# Altium integrated library Micron Memory Parallel NOR Flash.IntLib: 720 symbols (part 185 of 216)
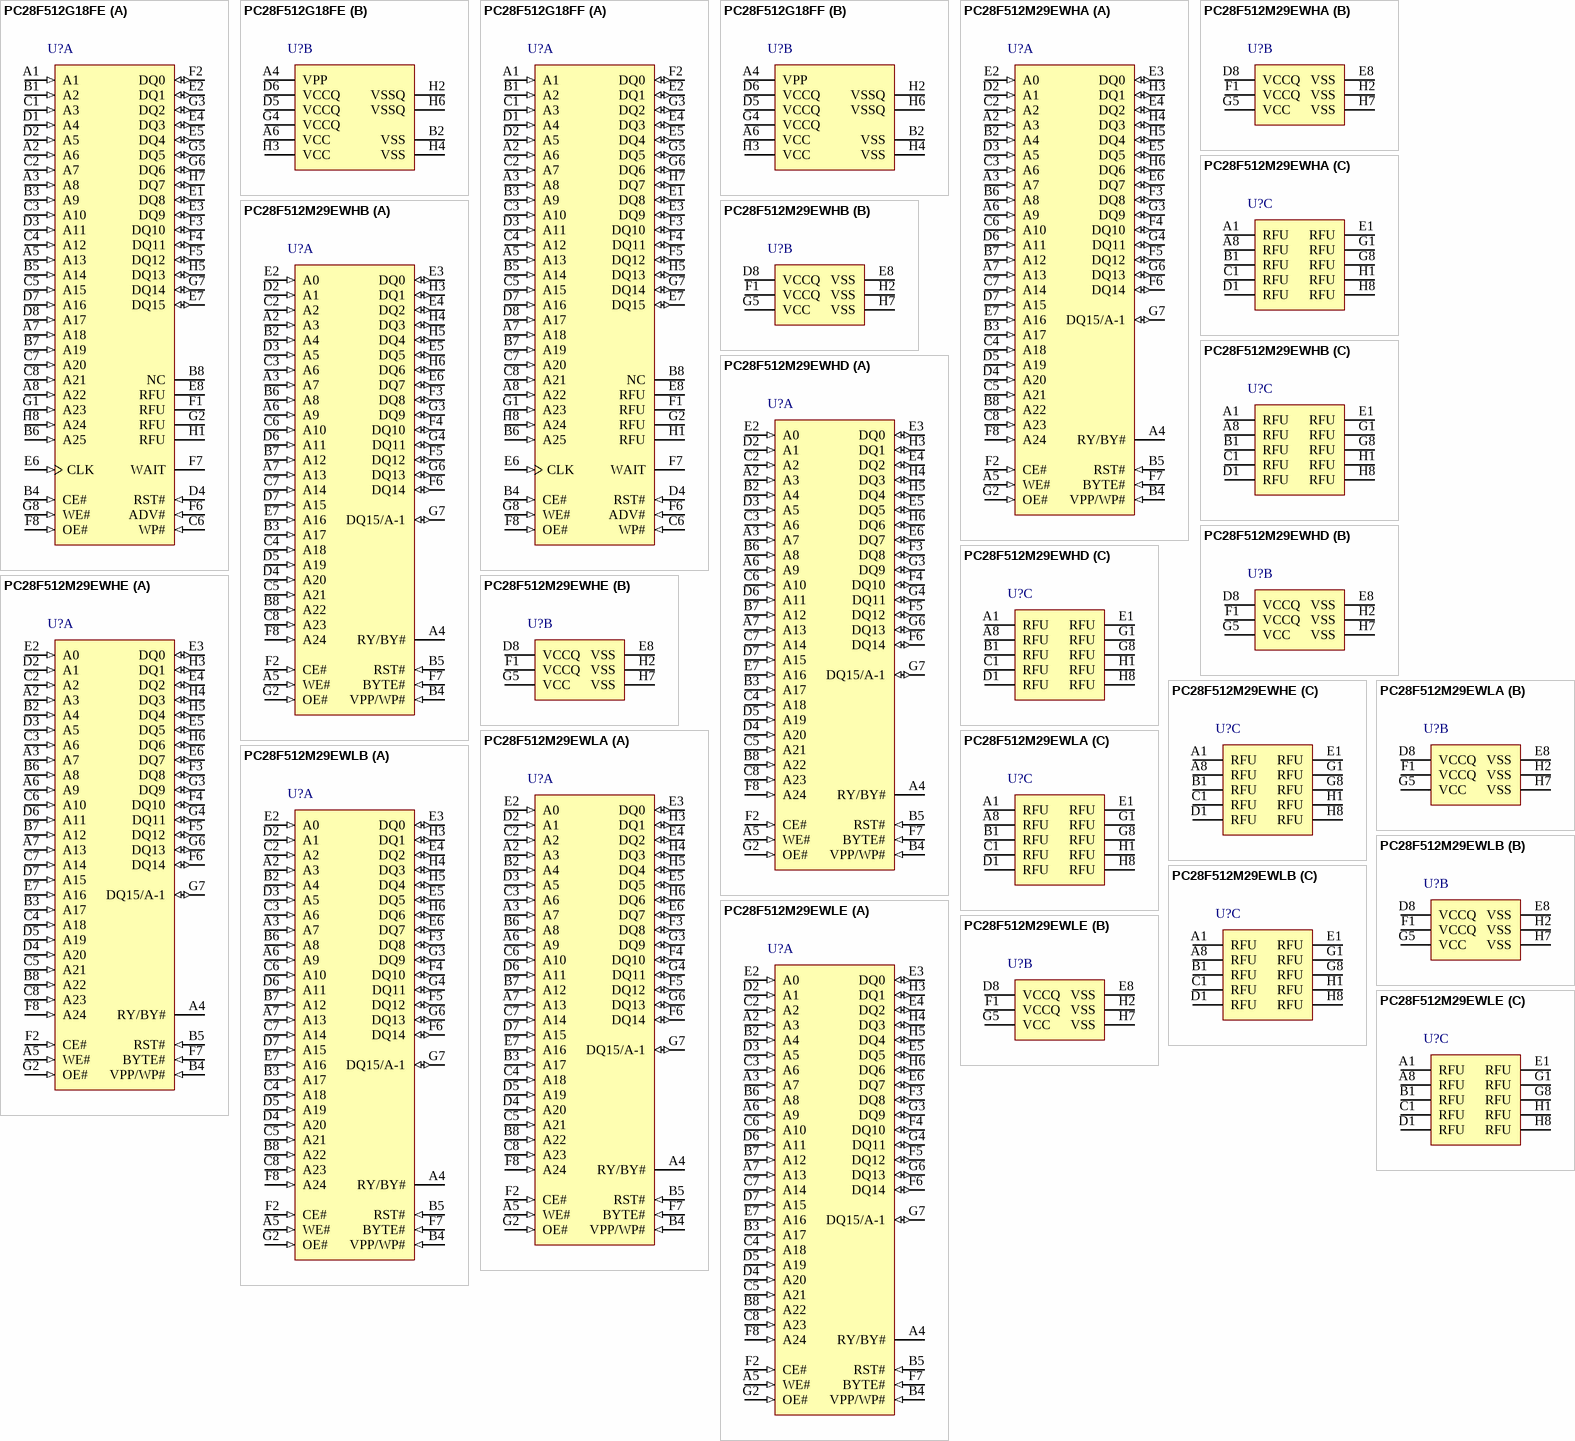
[diagram p216: symbols PC28F512G18FE to PC28F512M29EWLE]

## PC28F512G18FF
designator U?
512 Mb (x16) Parallel NOR Flash Memory, 96 ns, 1.7 to 2.0 V, 64-ball Easy BGA (PC), Tape & Reel; Part Family: G18; Manufacturer: Micron; PartNumber: PC28F512G18FF; Density: 512Mb; Op Temp: -40C to +85C; Speed: 96ns; Voltage: 1.7V-2.0V; DatasheetVersion: Rev. F; PackageVersion: Rev. 5; PackageReference: MICT-PC-64-8000X10000X1200DEA; PackageDescription: 64-Ball BGA, 8 x 10 mm, Pitch 1 mm; RoHS: Yes; Width: x16; Mounting Technology: Surface Mount; ComponentLink1Description: Manufacturer URL; ComponentLink1URL: http://www.micron.com/; ComponentLink2Description: Datasheet; ComponentLink2URL: http://www.micron.com/~/media/Documents/Products/Data%20Sheet/NOR%20Flash/Parallel/G18/128_256_512_1Gb_65nm_g18.pdf; ComponentLink3Description: Package Specification; ComponentLink3URL: http://www.micron.com/~/media/Documents/Products/Data%20Sheet/NOR%20Flash/Parallel/P33/314749_P33_130nm_Discrete_DS.pdf
footprint MICT-PC-64-8000X10000X1200DEA (BGA, 64-Balls, Body 10x8mm, Pitch 1mm)
part A pins: A1 (in) "Address Input: Address Input for all READ/WRITE cycles.", A2 A6 (in) "Address Input: Address Input for all READ/WRITE cycles.", A3 A8 (in) "Address Input: Address Input for all READ/WRITE cycles.", A5 A13 (in) "Address Input: Address Input for all READ/WRITE cycles.", A7 A18 (in) "Address Input: Address Input for all READ/WRITE cycles.", A8 A22 (in) "Address Input: Address Input for all READ/WRITE cycles.", B1 A2 (in) "Address Input: Address Input for all READ/WRITE cycles.", B3 A9 (in) "Address Input: Address Input for all READ/WRITE cycles.", B4 CE# (in) "Chip enable: LOW true input. When LOW, CE# selects the die; when HIGH, CE# deselects the die and places it in standby.", B5 A14 (in) "Address Input: Address Input for all READ/WRITE cycles.", B6 A25 (in) "Address Input: Address Input for all READ/WRITE cycles.", B7 A19 (in) "Address Input: Address Input for all READ/WRITE cycles.", B8 NC "no connect", C1 A3 (in) "Address Input: Address Input for all READ/WRITE cycles.", C2 A7 (in) "Address Input: Address Input for all READ/WRITE cycles.", C3 A10 (in) "Address Input: Address Input for all READ/WRITE cycles.", C4 A12 (in) "Address Input: Address Input for all READ/WRITE cycles.", C5 A15 (in) "Address Input: Address Input for all READ/WRITE cycles.", C6 WP# (in) "Write protect: LOW true input. When LOW, WP# enables block lock down; when HIGH, WP# disables block lock down.", C7 A20 (in) "Address Input: Address Input for all READ/WRITE cycles.", C8 A21 (in) "Address Input: Address Input for all READ/WRITE cycles.", D1 A4 (in) "Address Input: Address Input for all READ/WRITE cycles.", D2 A5 (in) "Address Input: Address Input for all READ/WRITE cycles.", D3 A11 (in) "Address Input: Address Input for all READ/WRITE cycles.", D4 RST# (in) "Reset: LOW true input. When LOW, RST# inhibits all operations; must be HIGH for normal operations.", D7 A16 (in) "Address Input: Address Input for all READ/WRITE cycles.", D8 A17 (in) "Address Input: Address Input for all READ/WRITE cycles.", E1 DQ8 (io) "Data: Data or command Input during WRITE cycles; data, status, or device information Output during READ cycles.", E2 DQ1 (io) "Data: Data or command Input during WRITE cycles; data, status, or device information Output during READ cycles.", E3 DQ9 (io) "Data: Data or command Input during WRITE cycles; data, status, or device information Output during READ cycles.", E4 DQ3 (io) "Data: Data or command Input during WRITE cycles; data, status, or device information Output during READ cycles.", E5 DQ4 (io) "Data: Data or command Input during WRITE cycles; data, status, or device information Output during READ cycles.", E6 CLK (in) "Clock: Synchronizes burst READ operations with the host controller.", E7 DQ15 (io) "Data: Data or command Input during WRITE cycles; data, status, or device information Output during READ cycles.", E8 RFU "Reserved for Future Use: Reserved by Numonyx for future device functionality and enhancement. These should be treated in the same way as a Do Not Use (DU) signal.", F1 RFU "Reserved for Future Use: Reserved by Numonyx for future device functionality and enhancement. These should be treated in the same way as a Do Not Use (DU) signal.", F2 DQ0 (io) "Data: Data or command Input during WRITE cycles; data, status, or device information Output during READ cycles.", F3 DQ10 (io) "Data: Data or command Input during WRITE cycles; data, status, or device information Output during READ cycles.", F4 DQ11 (io) "Data: Data or command Input during WRITE cycles; data, status, or device information Output during READ cycles.", F5 DQ12 (io) "Data: Data or command Input during WRITE cycles; data, status, or device information Output during READ cycles.", F6 ADV# (in) "Address valid: LOW true input. When LOW, ADV# enables address inputs. For synchronous burst READs, address inputs are latched on the rising edge.", F7 WAIT (hiz) "WAIT: Configurable HIGH or LOW true output. When asserted, WAIT indicates DQ[15:0] is invalid; when de-asserted, WAIT indicates DQ[15:0] is valid.", F8 OE# (in) "Output enable: LOW true input. Must be LOW for READs and HIGH for WRITEs.", G1 A23 (in) "Address Input: Device Address Input. 64-Mbit: A[22:1]; 128-Mbit: A[23:1]; 256-Mbit: A[24:1]; 512-Mbit: A[25:1]. Note: The virtual selection of the 256-Mbit “Top parameter” die in the dual-die 512-Mbit configuration is (See Datasheet)", G2 RFU "Reserved for Future Use: Reserved by Numonyx for future device functionality and enhancement. These should be treated in the same way as a Do Not Use (DU) signal.", G3 DQ2 (io) "Data: Data or command Input during WRITE cycles; data, status, or device information Output during READ cycles.", G5 DQ5 (io) "Data: Data or command Input during WRITE cycles; data, status, or device information Output during READ cycles.", G6 DQ6 (io) "Data: Data or command Input during WRITE cycles; data, status, or device information Output during READ cycles.", G7 DQ14 (io) "Data: Data or command Input during WRITE cycles; data, status, or device information Output during READ cycles.", G8 WE# (in) "Write enable: LOW true input. Must be LOW for WRITEs and HIGH for READs.", H1 RFU "Reserved for Future Use: Reserved by Numonyx for future device functionality and enhancement. These should be treated in the same way as a Do Not Use (DU) signal.", H5 DQ13 (io) "Data: Data or command Input during WRITE cycles; data, status, or device information Output during READ cycles.", H7 DQ7 (io) "Data: Data or command Input during WRITE cycles; data, status, or device information Output during READ cycles.", H8 A24 (in) "Address Input: Address Input for all READ/WRITE cycles."
part B pins: A4 VPP (power) "Erase/program voltage: Enables voltage for PROGRAM and ERASE operations. Array contents cannot be altered when VPP is at or below VPPLK.", A6 VCC (power) "Core power: Supply voltage for core circuits. All operations are inhibited when VCC is at or below VLKO.", B2 VSS (power) "Logic ground: Core logic ground return. Connect all VSS balls to system ground; do not float any VSS balls.", D5 VCCQ (power) "I/O power: Supply voltage for all I/O drivers. All operations are inhibited when VCCQ is at or below VLKOQ", D6 VCCQ (power) "I/O power: Supply voltage for all I/O drivers. All operations are inhibited when VCCQ is at or below VLKOQ", G4 VCCQ (power) "I/O power: Supply voltage for all I/O drivers. All operations are inhibited when VCCQ is at or below VLKOQ", H2 VSSQ (power) "I/O ground: I/O driver ground return. Connect all VSSQ balls to system ground; do not float any VSSQ balls.", H3 VCC (power) "Device Core Power Supply: Core (logic) source voltage. Writes to the flash array are inhibited when VCC . VLKO. Operations at invalid VCC voltages should not be attempted.", H4 VSS (power) "Logic ground: Core logic ground return. Connect all VSS balls to system ground; do not float any VSS balls.", H6 VSSQ (power) "I/O ground: I/O driver ground return. Connect all VSSQ balls to system ground; do not float any VSSQ balls."

## PC28F512M29EWHA
designator U?
512 Mb (x8/x16) Parallel NOR Flash Memory, 100 ns, 2.7 to 3.6 V, 64-ball FBGA (PC), Tray; Part Family: M29EW; Manufacturer: Micron; PartNumber: PC28F512M29EWHA; Density: 512Mb; Op Temp: -40C to +85C; Speed: 100ns; Voltage: 2.7V-3.6V; DatasheetVersion: Rev. B; PackageVersion: Rev. B; PackageReference: MICT-PC-64-13000X11000X1400DEA; PackageDescription: 64-Ball BGA, 13 x 11 mm, Pitch 1 mm; RoHS: Yes; Width: x8/x16; Mounting Technology: Surface Mount; ComponentLink1Description: Manufacturer URL; ComponentLink1URL: http://www.micron.com/; ComponentLink2Description: Datasheet; ComponentLink2URL: http://www.micron.com/~/media/Documents/Products/Data%20Sheet/NOR%20Flash/Parallel/M29EW/m29ew_256mb_2gb.pdf; ComponentLink3Description: Package Specification; ComponentLink3URL: http://www.micron.com/~/media/Documents/Products/Data%20Sheet/NOR%20Flash/Parallel/M29EW/m29ew_256mb_2gb.pdf
footprint MICT-PC-64-13000X11000X1400DEA (BGA, 64-Balls, Body 13x11mm, Pitch 1mm)
part A pins: A2 A3 (in) "Address: Selects the cells in the array to access during READ operations. During WRITE operations, they control the commands sent to the command interface of the program/erase controller.", A3 A7 (in) "Address: Selects the cells in the array to access during READ operations. During WRITE operations, they control the commands sent to the command interface of the program/erase controller.", A4 RY/BY# (hiz) "Ready busy: Open-drain output that can be used to identify when the device is performing a PROGRAM or ERASE operation. During PROGRAM or ERASE operations, RY/BY# is LOW, and is High-Z during read mode, auto select mode, and (See Datasheet)", A5 WE# (in) "Write enable: Controls the bus WRITE operation of the command interface.", A6 A9 (in) "Address: Selects the cells in the array to access during READ operations. During WRITE operations, they control the commands sent to the command interface of the program/erase controller.", A7 A13 (in) "Address: Selects the cells in the array to access during READ operations. During WRITE operations, they control the commands sent to the command interface of the program/erase controller.", B2 A4 (in) "Address: Selects the cells in the array to access during READ operations. During WRITE operations, they control the commands sent to the command interface of the program/erase controller.", B3 A17 (in) "Address: Selects the cells in the array to access during READ operations. During WRITE operations, they control the commands sent to the command interface of the program/erase controller.", B4 VPP/WP# (in) "VPP/Write Protect: Provides WRITE PROTECT function and VPPH function. These functions protect the lowest or highest block and enable the device to enter unlock bypass mode, respectively. (Refer to Hardware Protection and (See Datasheet)", B5 RST# (in) "Reset: Applies a hardware reset to the device, which is achieved by holding RST# LOW for at least tPLPX. After RST# goes HIGH, the device is ready for READ and WRITE operations (after tPHEL or tRHEL, whichever occurs last). (See Datasheet)", B6 A8 (in) "Address: Selects the cells in the array to access during READ operations. During WRITE operations, they control the commands sent to the command interface of the program/erase controller.", B7 A12 (in) "Address: Selects the cells in the array to access during READ operations. During WRITE operations, they control the commands sent to the command interface of the program/erase controller.", B8 A22 (in) "Address: Selects the cells in the array to access during READ operations. During WRITE operations, they control the commands sent to the command interface of the program/erase controller.", C2 A2 (in) "Address: Selects the cells in the array to access during READ operations. During WRITE operations, they control the commands sent to the command interface of the program/erase controller.", C3 A6 (in) "Address: Selects the cells in the array to access during READ operations. During WRITE operations, they control the commands sent to the command interface of the program/erase controller.", C4 A18 (in) "Address: Selects the cells in the array to access during READ operations. During WRITE operations, they control the commands sent to the command interface of the program/erase controller.", C5 A21 (in) "Address: Selects the cells in the array to access during READ operations. During WRITE operations, they control the commands sent to the command interface of the program/erase controller.", C6 A10 (in) "Address: Selects the cells in the array to access during READ operations. During WRITE operations, they control the commands sent to the command interface of the program/erase controller.", C7 A14 (in) "Address: Selects the cells in the array to access during READ operations. During WRITE operations, they control the commands sent to the command interface of the program/erase controller.", C8 A23 (in) "Address: Selects the cells in the array to access during READ operations. During WRITE operations, they control the commands sent to the command interface of the program/erase controller.", D2 A1 (in) "Address: Selects the cells in the array to access during READ operations. During WRITE operations, they control the commands sent to the command interface of the program/erase controller.", D3 A5 (in) "Address: Selects the cells in the array to access during READ operations. During WRITE operations, they control the commands sent to the command interface of the program/erase controller.", D4 A20 (in) "Address: Selects the cells in the array to access during READ operations. During WRITE operations, they control the commands sent to the command interface of the program/erase controller.", D5 A19 (in) "Address: Selects the cells in the array to access during READ operations. During WRITE operations, they control the commands sent to the command interface of the program/erase controller.", D6 A11 (in) "Address: Selects the cells in the array to access during READ operations. During WRITE operations, they control the commands sent to the command interface of the program/erase controller.", D7 A15 (in) "Address: Selects the cells in the array to access during READ operations. During WRITE operations, they control the commands sent to the command interface of the program/erase controller.", E2 A0 (in) "Address: Selects the cells in the array to access during READ operations. During WRITE operations, they control the commands sent to the command interface of the program/erase controller.", E3 DQ0 (io) "Data I/O: Outputs the data stored at the selected address during a READ operation. During WRITE operations, they represent the commands sent to the command interface of the internal state machine.", E4 DQ2 (io) "Data I/O: Outputs the data stored at the selected address during a READ operation. During WRITE operations, they represent the commands sent to the command interface of the internal state machine.", E5 DQ5 (io) "Data I/O: Outputs the data stored at the selected address during a READ operation. During WRITE operations, they represent the commands sent to the command interface of the internal state machine.", E6 DQ7 (io) "Data I/O: Outputs the data stored at the selected address during a READ operation. During WRITE operations, they represent the commands sent to the command interface of the internal state machine.", E7 A16 (in) "Address: Selects the cells in the array to access during READ operations. During WRITE operations, they control the commands sent to the command interface of the program/erase controller.", F2 CE# (in) "Chip enable: Activates the device, enabling READ and WRITE operations to be performed. When CE# is HIGH, the device goes to standby and data outputs are at HIGH-Z.", F3 DQ8 (io) "Data I/O: Outputs the data stored at the selected address during a READ operation when BYTE# is HIGH. When BYTE# is LOW, these pins are not used and are High-Z. During WRITE operations, these bits are not used. When reading (See Datasheet)", F4 DQ10 (io) "Data I/O: Outputs the data stored at the selected address during a READ operation when BYTE# is HIGH. When BYTE# is LOW, these pins are not used and are High-Z. During WRITE operations, these bits are not used. When reading (See Datasheet)", F5 DQ12 (io) "Data I/O: Outputs the data stored at the selected address during a READ operation when BYTE# is HIGH. When BYTE# is LOW, these pins are not used and are High-Z. During WRITE operations, these bits are not used. When reading (See Datasheet)", F6 DQ14 (io) "Data I/O: Outputs the data stored at the selected address during a READ operation when BYTE# is HIGH. When BYTE# is LOW, these pins are not used and are High-Z. During WRITE operations, these bits are not used. When reading (See Datasheet)", F7 BYTE# (in) "Byte/word organization select: Switches between x8 and x16 bus modes. When BYTE# is LOW, the device is in x8 mode; when HIGH, the device is in x16 mode.", F8 A24 (in) "Address: Selects the cells in the array to access during READ operations. During WRITE operations, they control the commands sent to the command interface of the program/erase controller.", G2 OE# (in) "Output enable: Controls the bus READ operation.", G3 DQ9 (io) "Data I/O: Outputs the data stored at the selected address during a READ operation when BYTE# is HIGH. When BYTE# is LOW, these pins are not used and are High-Z. During WRITE operations, these bits are not used. When reading (See Datasheet)", G4 DQ11 (io) "Data I/O: Outputs the data stored at the selected address during a READ operation when BYTE# is HIGH. When BYTE# is LOW, these pins are not used and are High-Z. During WRITE operations, these bits are not used. When reading (See Datasheet)", G6 DQ13 (io) "Data I/O: Outputs the data stored at the selected address during a READ operation when BYTE# is HIGH. When BYTE# is LOW, these pins are not used and are High-Z. During WRITE operations, these bits are not used. When reading (See Datasheet)", G7 DQ15/A-1 (io) "Data I/O or address input: When the device operates in x16 bus mode, this pin behaves as data I/O, together with DQ[14:8]. When the device operates in x8 bus mode, this pin behaves as the least significant bit of the address.(See Datasheet)", H3 DQ1 (io) "Data I/O: Outputs the data stored at the selected address during a READ operation. During WRITE operations, they represent the commands sent to the command interface of the internal state machine.", H4 DQ3 (io) "Data I/O: Outputs the data stored at the selected address during a READ operation. During WRITE operations, they represent the commands sent to the command interface of the internal state machine.", H5 DQ4 (io) "Data I/O: Outputs the data stored at the selected address during a READ operation. During WRITE operations, they represent the commands sent to the command interface of the internal state machine.", H6 DQ6 (io) "Data I/O: Outputs the data stored at the selected address during a READ operation. During WRITE operations, they represent the commands sent to the command interface of the internal state machine."
part B pins: D8 VCCQ (power) "I/O supply voltage: Provides the power supply to the I/O pins and enables all outputs to be powered independently from VCC.", E8 VSS (power) "Ground: All VSS pins must be connected to the system ground.", F1 VCCQ (power) "I/O supply voltage: Provides the power supply to the I/O pins and enables all outputs to be powered independently from VCC.", G5 VCC (power) "Supply voltage: Provides the power supply for READ, PROGRAM, and ERASE operations. The command interface is disabled when VCC <= VLKO. This prevents WRITE operations from accidentally damaging the data during power-up, (See Datasheet)", H2 VSS (power) "Ground: All VSS pins must be connected to the system ground.", H7 VSS (power) "Ground: All VSS pins must be connected to the system ground."
part C pins: A1 RFU "Reserved for future use: RFUs should be not connected.", A8 RFU "Reserved for future use: RFUs should be not connected.", B1 RFU "Reserved for future use: RFUs should be not connected.", C1 RFU "Reserved for future use: RFUs should be not connected.", D1 RFU "Reserved for future use: RFUs should be not connected.", E1 RFU "Reserved for future use: RFUs should be not connected.", G1 RFU "Reserved for future use: RFUs should be not connected.", G8 RFU "Reserved for future use: RFUs should be not connected.", H1 RFU "Reserved for future use: RFUs should be not connected.", H8 RFU "Reserved for future use: RFUs should be not connected."

## PC28F512M29EWHB
designator U?
512 Mb (x8/x16) Parallel NOR Flash Memory, 100 ns, 2.7 to 3.6 V, 64-ball FBGA (PC), Tape & Reel; Part Family: M29EW; Manufacturer: Micron; PartNumber: PC28F512M29EWHB; Density: 512Mb; Op Temp: -40C to +85C; Speed: 100ns; Voltage: 2.7V-3.6V; DatasheetVersion: Rev. B; PackageVersion: Rev. B; PackageReference: MICT-PC-64-13000X11000X1400DEA; PackageDescription: 64-Ball BGA, 13 x 11 mm, Pitch 1 mm; RoHS: Yes; Width: x8/x16; Mounting Technology: Surface Mount; ComponentLink1Description: Manufacturer URL; ComponentLink1URL: http://www.micron.com/; ComponentLink2Description: Datasheet; ComponentLink2URL: http://www.micron.com/~/media/Documents/Products/Data%20Sheet/NOR%20Flash/Parallel/M29EW/m29ew_256mb_2gb.pdf; ComponentLink3Description: Package Specification; ComponentLink3URL: http://www.micron.com/~/media/Documents/Products/Data%20Sheet/NOR%20Flash/Parallel/M29EW/m29ew_256mb_2gb.pdf
footprint MICT-PC-64-13000X11000X1400DEA (BGA, 64-Balls, Body 13x11mm, Pitch 1mm)
part A pins: A2 A3 (in) "Address: Selects the cells in the array to access during READ operations. During WRITE operations, they control the commands sent to the command interface of the program/erase controller.", A3 A7 (in) "Address: Selects the cells in the array to access during READ operations. During WRITE operations, they control the commands sent to the command interface of the program/erase controller.", A4 RY/BY# (hiz) "Ready busy: Open-drain output that can be used to identify when the device is performing a PROGRAM or ERASE operation. During PROGRAM or ERASE operations, RY/BY# is LOW, and is High-Z during read mode, auto select mode, and (See Datasheet)", A5 WE# (in) "Write enable: Controls the bus WRITE operation of the command interface.", A6 A9 (in) "Address: Selects the cells in the array to access during READ operations. During WRITE operations, they control the commands sent to the command interface of the program/erase controller.", A7 A13 (in) "Address: Selects the cells in the array to access during READ operations. During WRITE operations, they control the commands sent to the command interface of the program/erase controller.", B2 A4 (in) "Address: Selects the cells in the array to access during READ operations. During WRITE operations, they control the commands sent to the command interface of the program/erase controller.", B3 A17 (in) "Address: Selects the cells in the array to access during READ operations. During WRITE operations, they control the commands sent to the command interface of the program/erase controller.", B4 VPP/WP# (in) "VPP/Write Protect: Provides WRITE PROTECT function and VPPH function. These functions protect the lowest or highest block and enable the device to enter unlock bypass mode, respectively. (Refer to Hardware Protection and (See Datasheet)", B5 RST# (in) "Reset: Applies a hardware reset to the device, which is achieved by holding RST# LOW for at least tPLPX. After RST# goes HIGH, the device is ready for READ and WRITE operations (after tPHEL or tRHEL, whichever occurs last). (See Datasheet)", B6 A8 (in) "Address: Selects the cells in the array to access during READ operations. During WRITE operations, they control the commands sent to the command interface of the program/erase controller.", B7 A12 (in) "Address: Selects the cells in the array to access during READ operations. During WRITE operations, they control the commands sent to the command interface of the program/erase controller.", B8 A22 (in) "Address: Selects the cells in the array to access during READ operations. During WRITE operations, they control the commands sent to the command interface of the program/erase controller.", C2 A2 (in) "Address: Selects the cells in the array to access during READ operations. During WRITE operations, they control the commands sent to the command interface of the program/erase controller.", C3 A6 (in) "Address: Selects the cells in the array to access during READ operations. During WRITE operations, they control the commands sent to the command interface of the program/erase controller.", C4 A18 (in) "Address: Selects the cells in the array to access during READ operations. During WRITE operations, they control the commands sent to the command interface of the program/erase controller.", C5 A21 (in) "Address: Selects the cells in the array to access during READ operations. During WRITE operations, they control the commands sent to the command interface of the program/erase controller.", C6 A10 (in) "Address: Selects the cells in the array to access during READ operations. During WRITE operations, they control the commands sent to the command interface of the program/erase controller.", C7 A14 (in) "Address: Selects the cells in the array to access during READ operations. During WRITE operations, they control the commands sent to the command interface of the program/erase controller.", C8 A23 (in) "Address: Selects the cells in the array to access during READ operations. During WRITE operations, they control the commands sent to the command interface of the program/erase controller.", D2 A1 (in) "Address: Selects the cells in the array to access during READ operations. During WRITE operations, they control the commands sent to the command interface of the program/erase controller.", D3 A5 (in) "Address: Selects the cells in the array to access during READ operations. During WRITE operations, they control the commands sent to the command interface of the program/erase controller.", D4 A20 (in) "Address: Selects the cells in the array to access during READ operations. During WRITE operations, they control the commands sent to the command interface of the program/erase controller.", D5 A19 (in) "Address: Selects the cells in the array to access during READ operations. During WRITE operations, they control the commands sent to the command interface of the program/erase controller.", D6 A11 (in) "Address: Selects the cells in the array to access during READ operations. During WRITE operations, they control the commands sent to the command interface of the program/erase controller.", D7 A15 (in) "Address: Selects the cells in the array to access during READ operations. During WRITE operations, they control the commands sent to the command interface of the program/erase controller.", E2 A0 (in) "Address: Selects the cells in the array to access during READ operations. During WRITE operations, they control the commands sent to the command interface of the program/erase controller.", E3 DQ0 (io) "Data I/O: Outputs the data stored at the selected address during a READ operation. During WRITE operations, they represent the commands sent to the command interface of the internal state machine.", E4 DQ2 (io) "Data I/O: Outputs the data stored at the selected address during a READ operation. During WRITE operations, they represent the commands sent to the command interface of the internal state machine.", E5 DQ5 (io) "Data I/O: Outputs the data stored at the selected address during a READ operation. During WRITE operations, they represent the commands sent to the command interface of the internal state machine.", E6 DQ7 (io) "Data I/O: Outputs the data stored at the selected address during a READ operation. During WRITE operations, they represent the commands sent to the command interface of the internal state machine.", E7 A16 (in) "Address: Selects the cells in the array to access during READ operations. During WRITE operations, they control the commands sent to the command interface of the program/erase controller.", F2 CE# (in) "Chip enable: Activates the device, enabling READ and WRITE operations to be performed. When CE# is HIGH, the device goes to standby and data outputs are at HIGH-Z.", F3 DQ8 (io) "Data I/O: Outputs the data stored at the selected address during a READ operation when BYTE# is HIGH. When BYTE# is LOW, these pins are not used and are High-Z. During WRITE operations, these bits are not used. When reading (See Datasheet)", F4 DQ10 (io) "Data I/O: Outputs the data stored at the selected address during a READ operation when BYTE# is HIGH. When BYTE# is LOW, these pins are not used and are High-Z. During WRITE operations, these bits are not used. When reading (See Datasheet)", F5 DQ12 (io) "Data I/O: Outputs the data stored at the selected address during a READ operation when BYTE# is HIGH. When BYTE# is LOW, these pins are not used and are High-Z. During WRITE operations, these bits are not used. When reading (See Datasheet)", F6 DQ14 (io) "Data I/O: Outputs the data stored at the selected address during a READ operation when BYTE# is HIGH. When BYTE# is LOW, these pins are not used and are High-Z. During WRITE operations, these bits are not used. When reading (See Datasheet)", F7 BYTE# (in) "Byte/word organization select: Switches between x8 and x16 bus modes. When BYTE# is LOW, the device is in x8 mode; when HIGH, the device is in x16 mode.", F8 A24 (in) "Address: Selects the cells in the array to access during READ operations. During WRITE operations, they control the commands sent to the command interface of the program/erase controller.", G2 OE# (in) "Output enable: Controls the bus READ operation.", G3 DQ9 (io) "Data I/O: Outputs the data stored at the selected address during a READ operation when BYTE# is HIGH. When BYTE# is LOW, these pins are not used and are High-Z. During WRITE operations, these bits are not used. When reading (See Datasheet)", G4 DQ11 (io) "Data I/O: Outputs the data stored at the selected address during a READ operation when BYTE# is HIGH. When BYTE# is LOW, these pins are not used and are High-Z. During WRITE operations, these bits are not used. When reading (See Datasheet)", G6 DQ13 (io) "Data I/O: Outputs the data stored at the selected address during a READ operation when BYTE# is HIGH. When BYTE# is LOW, these pins are not used and are High-Z. During WRITE operations, these bits are not used. When reading (See Datasheet)", G7 DQ15/A-1 (io) "Data I/O or address input: When the device operates in x16 bus mode, this pin behaves as data I/O, together with DQ[14:8]. When the device operates in x8 bus mode, this pin behaves as the least significant bit of the address.(See Datasheet)", H3 DQ1 (io) "Data I/O: Outputs the data stored at the selected address during a READ operation. During WRITE operations, they represent the commands sent to the command interface of the internal state machine.", H4 DQ3 (io) "Data I/O: Outputs the data stored at the selected address during a READ operation. During WRITE operations, they represent the commands sent to the command interface of the internal state machine.", H5 DQ4 (io) "Data I/O: Outputs the data stored at the selected address during a READ operation. During WRITE operations, they represent the commands sent to the command interface of the internal state machine.", H6 DQ6 (io) "Data I/O: Outputs the data stored at the selected address during a READ operation. During WRITE operations, they represent the commands sent to the command interface of the internal state machine."
part B pins: D8 VCCQ (power) "I/O supply voltage: Provides the power supply to the I/O pins and enables all outputs to be powered independently from VCC.", E8 VSS (power) "Ground: All VSS pins must be connected to the system ground.", F1 VCCQ (power) "I/O supply voltage: Provides the power supply to the I/O pins and enables all outputs to be powered independently from VCC.", G5 VCC (power) "Supply voltage: Provides the power supply for READ, PROGRAM, and ERASE operations. The command interface is disabled when VCC <= VLKO. This prevents WRITE operations from accidentally damaging the data during power-up, (See Datasheet)", H2 VSS (power) "Ground: All VSS pins must be connected to the system ground.", H7 VSS (power) "Ground: All VSS pins must be connected to the system ground."
part C pins: A1 RFU "Reserved for future use: RFUs should be not connected.", A8 RFU "Reserved for future use: RFUs should be not connected.", B1 RFU "Reserved for future use: RFUs should be not connected.", C1 RFU "Reserved for future use: RFUs should be not connected.", D1 RFU "Reserved for future use: RFUs should be not connected.", E1 RFU "Reserved for future use: RFUs should be not connected.", G1 RFU "Reserved for future use: RFUs should be not connected.", G8 RFU "Reserved for future use: RFUs should be not connected.", H1 RFU "Reserved for future use: RFUs should be not connected.", H8 RFU "Reserved for future use: RFUs should be not connected."

## PC28F512M29EWHD
designator U?
512 Mb (x8/x16) Parallel NOR Flash Memory, 100 ns, 2.7 to 3.6 V, 64-ball FBGA (PC), Tray; Part Family: M29EW; Manufacturer: Micron; PartNumber: PC28F512M29EWHD; Density: 512Mb; Op Temp: -40C to +85C; Speed: 100ns; Voltage: 2.7V-3.6V; DatasheetVersion: Rev. B; PackageVersion: Rev. B; PackageReference: MICT-PC-64-13000X11000X1400DEA; PackageDescription: 64-Ball BGA, 13 x 11 mm, Pitch 1 mm; RoHS: Yes; Width: x8/x16; Mounting Technology: Surface Mount; ComponentLink1Description: Manufacturer URL; ComponentLink1URL: http://www.micron.com/; ComponentLink2Description: Datasheet; ComponentLink2URL: http://www.micron.com/~/media/Documents/Products/Data%20Sheet/NOR%20Flash/Parallel/M29EW/m29ew_256mb_2gb.pdf; ComponentLink3Description: Package Specification; ComponentLink3URL: http://www.micron.com/~/media/Documents/Products/Data%20Sheet/NOR%20Flash/Parallel/M29EW/m29ew_256mb_2gb.pdf
footprint MICT-PC-64-13000X11000X1400DEA (BGA, 64-Balls, Body 13x11mm, Pitch 1mm)
part A pins: A2 A3 (in) "Address: Selects the cells in the array to access during READ operations. During WRITE operations, they control the commands sent to the command interface of the program/erase controller.", A3 A7 (in) "Address: Selects the cells in the array to access during READ operations. During WRITE operations, they control the commands sent to the command interface of the program/erase controller.", A4 RY/BY# (hiz) "Ready busy: Open-drain output that can be used to identify when the device is performing a PROGRAM or ERASE operation. During PROGRAM or ERASE operations, RY/BY# is LOW, and is High-Z during read mode, auto select mode, and (See Datasheet)", A5 WE# (in) "Write enable: Controls the bus WRITE operation of the command interface.", A6 A9 (in) "Address: Selects the cells in the array to access during READ operations. During WRITE operations, they control the commands sent to the command interface of the program/erase controller.", A7 A13 (in) "Address: Selects the cells in the array to access during READ operations. During WRITE operations, they control the commands sent to the command interface of the program/erase controller.", B2 A4 (in) "Address: Selects the cells in the array to access during READ operations. During WRITE operations, they control the commands sent to the command interface of the program/erase controller.", B3 A17 (in) "Address: Selects the cells in the array to access during READ operations. During WRITE operations, they control the commands sent to the command interface of the program/erase controller.", B4 VPP/WP# (in) "VPP/Write Protect: Provides WRITE PROTECT function and VPPH function. These functions protect the lowest or highest block and enable the device to enter unlock bypass mode, respectively. (Refer to Hardware Protection and (See Datasheet)", B5 RST# (in) "Reset: Applies a hardware reset to the device, which is achieved by holding RST# LOW for at least tPLPX. After RST# goes HIGH, the device is ready for READ and WRITE operations (after tPHEL or tRHEL, whichever occurs last). (See Datasheet)", B6 A8 (in) "Address: Selects the cells in the array to access during READ operations. During WRITE operations, they control the commands sent to the command interface of the program/erase controller.", B7 A12 (in) "Address: Selects the cells in the array to access during READ operations. During WRITE operations, they control the commands sent to the command interface of the program/erase controller.", B8 A22 (in) "Address: Selects the cells in the array to access during READ operations. During WRITE operations, they control the commands sent to the command interface of the program/erase controller.", C2 A2 (in) "Address: Selects the cells in the array to access during READ operations. During WRITE operations, they control the commands sent to the command interface of the program/erase controller.", C3 A6 (in) "Address: Selects the cells in the array to access during READ operations. During WRITE operations, they control the commands sent to the command interface of the program/erase controller.", C4 A18 (in) "Address: Selects the cells in the array to access during READ operations. During WRITE operations, they control the commands sent to the command interface of the program/erase controller.", C5 A21 (in) "Address: Selects the cells in the array to access during READ operations. During WRITE operations, they control the commands sent to the command interface of the program/erase controller.", C6 A10 (in) "Address: Selects the cells in the array to access during READ operations. During WRITE operations, they control the commands sent to the command interface of the program/erase controller.", C7 A14 (in) "Address: Selects the cells in the array to access during READ operations. During WRITE operations, they control the commands sent to the command interface of the program/erase controller.", C8 A23 (in) "Address: Selects the cells in the array to access during READ operations. During WRITE operations, they control the commands sent to the command interface of the program/erase controller.", D2 A1 (in) "Address: Selects the cells in the array to access during READ operations. During WRITE operations, they control the commands sent to the command interface of the program/erase controller.", D3 A5 (in) "Address: Selects the cells in the array to access during READ operations. During WRITE operations, they control the commands sent to the command interface of the program/erase controller.", D4 A20 (in) "Address: Selects the cells in the array to access during READ operations. During WRITE operations, they control the commands sent to the command interface of the program/erase controller.", D5 A19 (in) "Address: Selects the cells in the array to access during READ operations. During WRITE operations, they control the commands sent to the command interface of the program/erase controller.", D6 A11 (in) "Address: Selects the cells in the array to access during READ operations. During WRITE operations, they control the commands sent to the command interface of the program/erase controller.", D7 A15 (in) "Address: Selects the cells in the array to access during READ operations. During WRITE operations, they control the commands sent to the command interface of the program/erase controller.", E2 A0 (in) "Address: Selects the cells in the array to access during READ operations. During WRITE operations, they control the commands sent to the command interface of the program/erase controller.", E3 DQ0 (io) "Data I/O: Outputs the data stored at the selected address during a READ operation. During WRITE operations, they represent the commands sent to the command interface of the internal state machine.", E4 DQ2 (io) "Data I/O: Outputs the data stored at the selected address during a READ operation. During WRITE operations, they represent the commands sent to the command interface of the internal state machine.", E5 DQ5 (io) "Data I/O: Outputs the data stored at the selected address during a READ operation. During WRITE operations, they represent the commands sent to the command interface of the internal state machine.", E6 DQ7 (io) "Data I/O: Outputs the data stored at the selected address during a READ operation. During WRITE operations, they represent the commands sent to the command interface of the internal state machine.", E7 A16 (in) "Address: Selects the cells in the array to access during READ operations. During WRITE operations, they control the commands sent to the command interface of the program/erase controller.", F2 CE# (in) "Chip enable: Activates the device, enabling READ and WRITE operations to be performed. When CE# is HIGH, the device goes to standby and data outputs are at HIGH-Z.", F3 DQ8 (io) "Data I/O: Outputs the data stored at the selected address during a READ operation when BYTE# is HIGH. When BYTE# is LOW, these pins are not used and are High-Z. During WRITE operations, these bits are not used. When reading (See Datasheet)", F4 DQ10 (io) "Data I/O: Outputs the data stored at the selected address during a READ operation when BYTE# is HIGH. When BYTE# is LOW, these pins are not used and are High-Z. During WRITE operations, these bits are not used. When reading (See Datasheet)", F5 DQ12 (io) "Data I/O: Outputs the data stored at the selected address during a READ operation when BYTE# is HIGH. When BYTE# is LOW, these pins are not used and are High-Z. During WRITE operations, these bits are not used. When reading (See Datasheet)", F6 DQ14 (io) "Data I/O: Outputs the data stored at the selected address during a READ operation when BYTE# is HIGH. When BYTE# is LOW, these pins are not used and are High-Z. During WRITE operations, these bits are not used. When reading (See Datasheet)", F7 BYTE# (in) "Byte/word organization select: Switches between x8 and x16 bus modes. When BYTE# is LOW, the device is in x8 mode; when HIGH, the device is in x16 mode.", F8 A24 (in) "Address: Selects the cells in the array to access during READ operations. During WRITE operations, they control the commands sent to the command interface of the program/erase controller.", G2 OE# (in) "Output enable: Controls the bus READ operation.", G3 DQ9 (io) "Data I/O: Outputs the data stored at the selected address during a READ operation when BYTE# is HIGH. When BYTE# is LOW, these pins are not used and are High-Z. During WRITE operations, these bits are not used. When reading (See Datasheet)", G4 DQ11 (io) "Data I/O: Outputs the data stored at the selected address during a READ operation when BYTE# is HIGH. When BYTE# is LOW, these pins are not used and are High-Z. During WRITE operations, these bits are not used. When reading (See Datasheet)", G6 DQ13 (io) "Data I/O: Outputs the data stored at the selected address during a READ operation when BYTE# is HIGH. When BYTE# is LOW, these pins are not used and are High-Z. During WRITE operations, these bits are not used. When reading (See Datasheet)", G7 DQ15/A-1 (io) "Data I/O or address input: When the device operates in x16 bus mode, this pin behaves as data I/O, together with DQ[14:8]. When the device operates in x8 bus mode, this pin behaves as the least significant bit of the address.(See Datasheet)", H3 DQ1 (io) "Data I/O: Outputs the data stored at the selected address during a READ operation. During WRITE operations, they represent the commands sent to the command interface of the internal state machine.", H4 DQ3 (io) "Data I/O: Outputs the data stored at the selected address during a READ operation. During WRITE operations, they represent the commands sent to the command interface of the internal state machine.", H5 DQ4 (io) "Data I/O: Outputs the data stored at the selected address during a READ operation. During WRITE operations, they represent the commands sent to the command interface of the internal state machine.", H6 DQ6 (io) "Data I/O: Outputs the data stored at the selected address during a READ operation. During WRITE operations, they represent the commands sent to the command interface of the internal state machine."
part B pins: D8 VCCQ (power) "I/O supply voltage: Provides the power supply to the I/O pins and enables all outputs to be powered independently from VCC.", E8 VSS (power) "Ground: All VSS pins must be connected to the system ground.", F1 VCCQ (power) "I/O supply voltage: Provides the power supply to the I/O pins and enables all outputs to be powered independently from VCC.", G5 VCC (power) "Supply voltage: Provides the power supply for READ, PROGRAM, and ERASE operations. The command interface is disabled when VCC <= VLKO. This prevents WRITE operations from accidentally damaging the data during power-up, (See Datasheet)", H2 VSS (power) "Ground: All VSS pins must be connected to the system ground.", H7 VSS (power) "Ground: All VSS pins must be connected to the system ground."
part C pins: A1 RFU "Reserved for future use: RFUs should be not connected.", A8 RFU "Reserved for future use: RFUs should be not connected.", B1 RFU "Reserved for future use: RFUs should be not connected.", C1 RFU "Reserved for future use: RFUs should be not connected.", D1 RFU "Reserved for future use: RFUs should be not connected.", E1 RFU "Reserved for future use: RFUs should be not connected.", G1 RFU "Reserved for future use: RFUs should be not connected.", G8 RFU "Reserved for future use: RFUs should be not connected.", H1 RFU "Reserved for future use: RFUs should be not connected.", H8 RFU "Reserved for future use: RFUs should be not connected."